# Altium footprint library Inductor_THT.PcbLib: 269 footprints (part 11 of 17)
Each footprint in its own frame and in the unit in brackets; x right, y up, seen from the top. Pads: shape width x height; smd on the part's side, far side on the other; paste and mask are expansions set on the pad; w line width, h text height; cw(c..) or ccw(c..) is an arc to the next point about the centre after c.
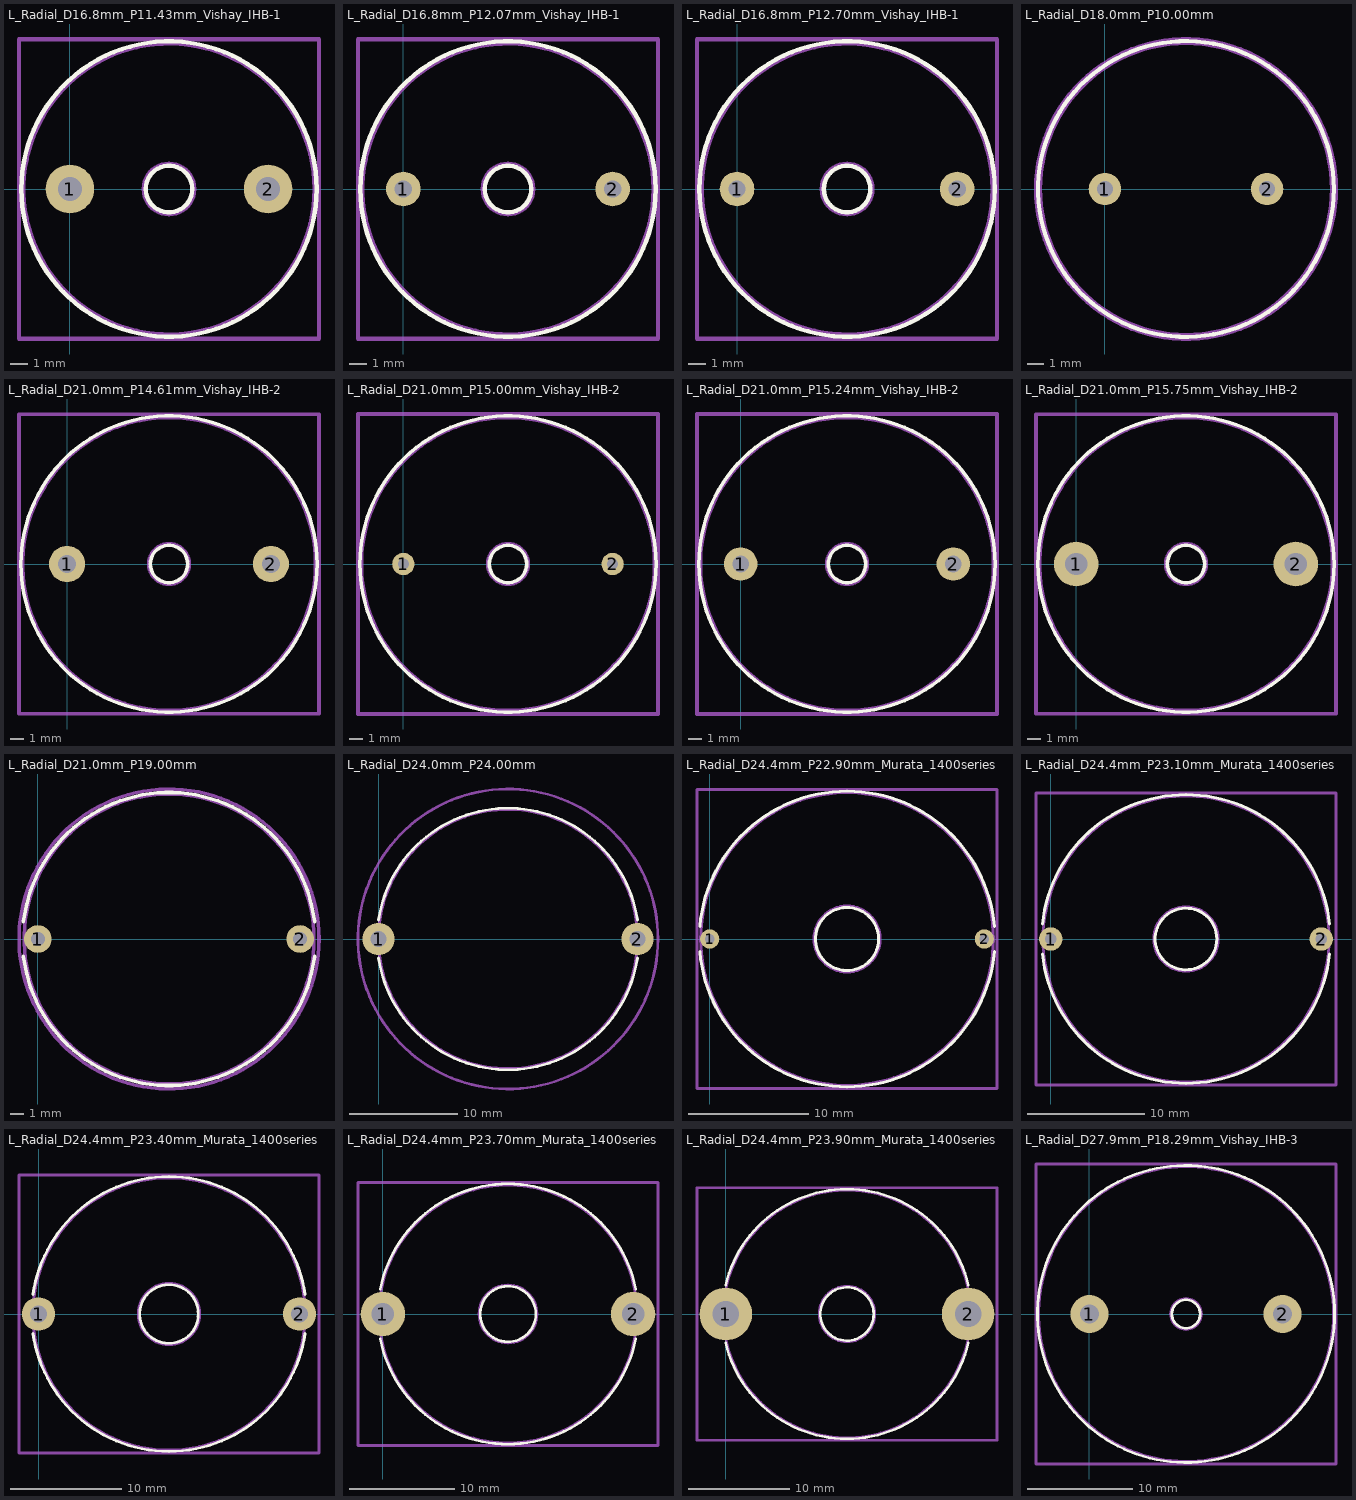
[diagram p10: the footprints below, top view; thin cyan lines are the x and y axes]

## L_Radial_D16.8mm_P11.43mm_Vishay_IHB-1 [mm]
pads (2):
  round 2.8 hole 1.4: 1(0,0) 2(11.43,0)
F.SilkS:
  circle w0.254: c5.715,0 r8.52
  circle w0.254: c5.715,0 r1.34
Top Assembly:
  circle w0.254: c5.715,0 r8.4
  circle w0.254: c5.715,0 r1.46
  text "'.Designator'" at 1.668,-0.84 h1
Top Courtyard:
  lines w0.254: -2.94,-8.65 14.37,-8.65 14.37,8.65 -2.94,8.65 -2.94,-8.65
Top Designator:
  text ".Designator" at -1.903,-0.508 h1.52
3D body "L_Radial_D16.8mm_P11.43mm_Vishay_IHB-1.step": height 21.44, standoff -3, extent -2.685,-8.397 14.115,8.397

## L_Radial_D16.8mm_P12.07mm_Vishay_IHB-1 [mm]
pads (2):
  round 2 hole 1: 1(0,0) 2(12.07,0)
F.SilkS:
  circle w0.254: c6.035,0 r8.52
  circle w0.254: c6.035,0 r1.34
Top Assembly:
  circle w0.254: c6.035,0 r8.4
  circle w0.254: c6.035,0 r1.46
  text "'.Designator'" at 1.988,-0.84 h1
Top Courtyard:
  lines w0.254: -2.62,-8.65 14.69,-8.65 14.69,8.65 -2.62,8.65 -2.62,-8.65
Top Designator:
  text ".Designator" at -1.583,-0.508 h1.52
3D body "L_Radial_D16.8mm_P12.07mm_Vishay_IHB-1.step": height 21.44, standoff -3, extent -2.365,-8.397 14.435,8.397

## L_Radial_D16.8mm_P12.70mm_Vishay_IHB-1 [mm]
pads (2):
  round 2 hole 1: 1(0,0) 2(12.7,0)
F.SilkS:
  circle w0.254: c6.35,0 r8.52
  circle w0.254: c6.35,0 r1.34
Top Assembly:
  circle w0.254: c6.35,0 r8.4
  circle w0.254: c6.35,0 r1.46
  text "'.Designator'" at 2.303,-0.84 h1
Top Courtyard:
  lines w0.254: -2.31,-8.65 15,-8.65 15,8.65 -2.31,8.65 -2.31,-8.65
Top Designator:
  text ".Designator" at -1.273,-0.508 h1.52
3D body "L_Radial_D16.8mm_P12.70mm_Vishay_IHB-1.step": height 21.44, standoff -3, extent -2.05,-8.397 14.75,8.397

## L_Radial_D18.0mm_P10.00mm [mm]
pads (2):
  round 2 hole 1: 1(0,0) 2(10,0)
F.SilkS:
  circle w0.254: c5,0 r9.12
Top Assembly:
  circle w0.254: c5,0 r9
  text "'.Designator'" at 0.953,-0.84 h1
Top Courtyard:
  circle w0.254: c5,0 r9.25
Top Designator:
  text ".Designator" at -2.618,-0.508 h1.52
3D body "L_Radial_D18.0mm_P10.00mm.step": height 27.1, standoff -3, extent -4,-9 14,9

## L_Radial_D21.0mm_P14.61mm_Vishay_IHB-2 [mm]
pads (2):
  round 2.6 hole 1.3: 1(0,0) 2(14.61,0)
F.SilkS:
  circle w0.254: c7.305,0 r10.62
  circle w0.254: c7.305,0 r1.34
Top Assembly:
  circle w0.254: c7.305,0 r10.5
  circle w0.254: c7.305,0 r1.46
  text "'.Designator'" at 3.258,-0.84 h1
Top Courtyard:
  lines w0.254: -3.45,-10.75 18.06,-10.75 18.06,10.75 -3.45,10.75 -3.45,-10.75
Top Designator:
  text ".Designator" at -0.313,-0.508 h1.52
3D body "L_Radial_D21.0mm_P14.61mm_Vishay_IHB-2.step": height 21.44, standoff -3, extent -3.195,-10.5 17.805,10.5

## L_Radial_D21.0mm_P15.00mm_Vishay_IHB-2 [mm]
pads (2):
  round 1.6 hole 0.8: 1(0,0) 2(15,0)
F.SilkS:
  circle w0.254: c7.5,0 r10.62
  circle w0.254: c7.5,0 r1.34
Top Assembly:
  circle w0.254: c7.5,0 r10.5
  circle w0.254: c7.5,0 r1.46
  text "'.Designator'" at 3.453,-0.84 h1
Top Courtyard:
  lines w0.254: -3.25,-10.75 18.25,-10.75 18.25,10.75 -3.25,10.75 -3.25,-10.75
Top Designator:
  text ".Designator" at -0.118,-0.508 h1.52
3D body "L_Radial_D21.0mm_P15.00mm_Vishay_IHB-2.step": height 21.44, standoff -3, extent -3,-10.5 18,10.5

## L_Radial_D21.0mm_P15.24mm_Vishay_IHB-2 [mm]
pads (2):
  round 2.4 hole 1.2: 1(0,0) 2(15.24,0)
F.SilkS:
  circle w0.254: c7.62,0 r10.62
  circle w0.254: c7.62,0 r1.34
Top Assembly:
  circle w0.254: c7.62,0 r10.5
  circle w0.254: c7.62,0 r1.46
  text "'.Designator'" at 3.573,-0.84 h1
Top Courtyard:
  lines w0.254: -3.13,-10.75 18.37,-10.75 18.37,10.75 -3.13,10.75 -3.13,-10.75
Top Designator:
  text ".Designator" at 0.002,-0.508 h1.52
3D body "L_Radial_D21.0mm_P15.24mm_Vishay_IHB-2.step": height 21.44, standoff -3, extent -2.88,-10.5 18.12,10.5

## L_Radial_D21.0mm_P15.75mm_Vishay_IHB-2 [mm]
pads (2):
  round 3.2 hole 1.6: 1(0,0) 2(15.75,0)
F.SilkS:
  circle w0.254: c7.875,0 r10.62
  circle w0.254: c7.875,0 r1.34
Top Assembly:
  circle w0.254: c7.875,0 r10.5
  circle w0.254: c7.875,0 r1.46
  text "'.Designator'" at 3.828,-0.84 h1
Top Courtyard:
  lines w0.254: -2.88,-10.75 18.63,-10.75 18.63,10.75 -2.88,10.75 -2.88,-10.75
Top Designator:
  text ".Designator" at 0.257,-0.508 h1.52
3D body "L_Radial_D21.0mm_P15.75mm_Vishay_IHB-2.step": height 21.44, standoff -3, extent -2.625,-10.5 18.375,10.5

## L_Radial_D21.0mm_P19.00mm [mm]
pads (2):
  round 2 hole 1: 1(0,0) 2(19,0)
F.SilkS:
  lines w0.254: -1.045,-1.26 ccw(c9.5,0) 20.045,-1.26 ; -1.045,1.26 cw(c9.5,0) 20.045,1.26
Top Assembly:
  circle w0.254: c9.5,0 r10.5
  text "'.Designator'" at 5.453,-0.84 h1
Top Courtyard:
  circle w0.254: c9.5,0 r10.87
Top Designator:
  text ".Designator" at 1.882,-0.508 h1.52
3D body "L_Radial_D21.0mm_P19.00mm.step": height 21.1, standoff -3, extent -1,-10.5 20,10.5

## L_Radial_D24.0mm_P24.00mm [mm]
pads (2):
  round 3 hole 1.5: 1(0,0) 2(24,0)
F.SilkS:
  lines w0.254: 0.008,-1.76 ccw(c12,0) 23.992,-1.76 ; 0.008,1.76 cw(c12,0) 23.992,1.76
Top Assembly:
  circle w0.254: c12,0 r12
  text "'.Designator'" at 7.953,-0.84 h1
Top Courtyard:
  circle w0.254: c12,0 r13.9
Top Designator:
  text ".Designator" at 4.382,-0.508 h1.52
3D body "L_Radial_D24.0mm_P24.00mm.step": height 24.1, standoff -3, extent -0.6,-12 24.6,12

## L_Radial_D24.4mm_P22.90mm_Murata_1400series [mm]
pads (2):
  round 1.6 hole 0.8: 1(0,0) 2(22.9,0)
F.SilkS:
  circle w0.254: c11.45,0 r2.63
  lines w0.254: -0.824,-1.06 ccw(c11.45,0) 23.724,-1.06 ; -0.824,1.06 cw(c11.45,0) 23.724,1.06
Top Assembly:
  circle w0.254: c11.45,0 r12.2
  circle w0.254: c11.45,0 r2.75
  text "'.Designator'" at 7.403,-0.84 h1
Top Courtyard:
  lines w0.254: -1.06,-12.45 23.95,-12.45 23.95,12.45 -1.06,12.45 -1.06,-12.45
Top Designator:
  text ".Designator" at 3.827,-0.508 h1.52
3D body "L_Radial_D24.4mm_P22.90mm_Murata_1400series.step": height 10.6, standoff -3, extent -0.75,-12.197 23.65,12.197

## L_Radial_D24.4mm_P23.10mm_Murata_1400series [mm]
pads (2):
  round 2 hole 1: 1(0,0) 2(23.1,0)
F.SilkS:
  circle w0.254: c11.55,0 r2.63
  lines w0.254: -0.705,-1.26 ccw(c11.55,0) 23.805,-1.26 ; -0.705,1.26 cw(c11.55,0) 23.805,1.26
Top Assembly:
  circle w0.254: c11.55,0 r12.2
  circle w0.254: c11.55,0 r2.75
  text "'.Designator'" at 7.503,-0.84 h1
Top Courtyard:
  lines w0.254: -1.25,-12.45 24.35,-12.45 24.35,12.45 -1.25,12.45 -1.25,-12.45
Top Designator:
  text ".Designator" at 3.932,-0.508 h1.52
3D body "L_Radial_D24.4mm_P23.10mm_Murata_1400series.step": height 10.6, standoff -3, extent -0.65,-12.197 23.75,12.197

## L_Radial_D24.4mm_P23.40mm_Murata_1400series [mm]
pads (2):
  round 3 hole 1.5: 1(0,0) 2(23.4,0)
F.SilkS:
  circle w0.254: c11.7,0 r2.63
  lines w0.254: -0.494,-1.76 ccw(c11.7,0) 23.894,-1.76 ; -0.494,1.76 cw(c11.7,0) 23.894,1.76
Top Assembly:
  circle w0.254: c11.7,0 r12.2
  circle w0.254: c11.7,0 r2.75
  text "'.Designator'" at 7.653,-0.84 h1
Top Courtyard:
  lines w0.254: -1.75,-12.45 25.15,-12.45 25.15,12.45 -1.75,12.45 -1.75,-12.45
Top Designator:
  text ".Designator" at 4.082,-0.508 h1.52
3D body "L_Radial_D24.4mm_P23.40mm_Murata_1400series.step": height 10.6, standoff -3, extent -0.6,-12.2 24,12.2

## L_Radial_D24.4mm_P23.70mm_Murata_1400series [mm]
pads (2):
  round 4.2 hole 2.1: 1(0,0) 2(23.7,0)
F.SilkS:
  circle w0.254: c11.85,0 r2.63
  lines w0.254: -0.242,-2.36 ccw(c11.85,0) 23.942,-2.36 ; -0.242,2.36 cw(c11.85,0) 23.942,2.36
Top Assembly:
  circle w0.254: c11.85,0 r12.2
  circle w0.254: c11.85,0 r2.75
  text "'.Designator'" at 7.803,-0.84 h1
Top Courtyard:
  lines w0.254: -2.35,-12.45 26.05,-12.45 26.05,12.45 -2.35,12.45 -2.35,-12.45
Top Designator:
  text ".Designator" at 4.232,-0.508 h1.52
3D body "L_Radial_D24.4mm_P23.70mm_Murata_1400series.step": height 10.6, standoff -3, extent -0.893,-12.2 24.6,12.2

## L_Radial_D24.4mm_P23.90mm_Murata_1400series [mm]
pads (2):
  round 5.2 hole 2.6: 1(0,0) 2(23.9,0)
F.SilkS:
  circle w0.254: c11.95,0 r2.63
  lines w0.254: -0.033,-2.86 ccw(c11.95,0) 23.933,-2.86 ; -0.033,2.86 cw(c11.95,0) 23.933,2.86
Top Assembly:
  circle w0.254: c11.95,0 r12.2
  circle w0.254: c11.95,0 r2.75
  text "'.Designator'" at 7.903,-0.84 h1
Top Courtyard:
  lines w0.254: -2.85,-12.45 26.75,-12.45 26.75,12.45 -2.85,12.45 -2.85,-12.45
Top Designator:
  text ".Designator" at 4.332,-0.508 h1.52
3D body "L_Radial_D24.4mm_P23.90mm_Murata_1400series.step": height 10.6, standoff -3, extent -1.141,-12.2 25.05,12.2

## L_Radial_D27.9mm_P18.29mm_Vishay_IHB-3 [mm]
pads (2):
  round 3.6 hole 1.8: 1(0,0) 2(18.29,0)
F.SilkS:
  circle w0.254: c9.145,0 r14.07
  circle w0.254: c9.145,0 r1.34
Top Assembly:
  circle w0.254: c9.145,0 r13.95
  circle w0.254: c9.145,0 r1.46
  text "'.Designator'" at 5.098,-0.84 h1
Top Courtyard:
  lines w0.254: -5.06,-14.2 23.35,-14.2 23.35,14.2 -5.06,14.2 -5.06,-14.2
Top Designator:
  text ".Designator" at 1.527,-0.508 h1.52
3D body "L_Radial_D27.9mm_P18.29mm_Vishay_IHB-3.step": height 21.44, standoff -3, extent -4.805,-13.946 23.095,13.946